# Altium footprint library PcbLib DISPLAY.PcbLib: 6 footprints
Each footprint in its own frame and in the unit in brackets; x right, y up, seen from the top. Pads: shape width x height; smd on the part's side, far side on the other; paste and mask are expansions set on the pad; w line width, h text height; cw(c..) or ccw(c..) is an arc to the next point about the centre after c.
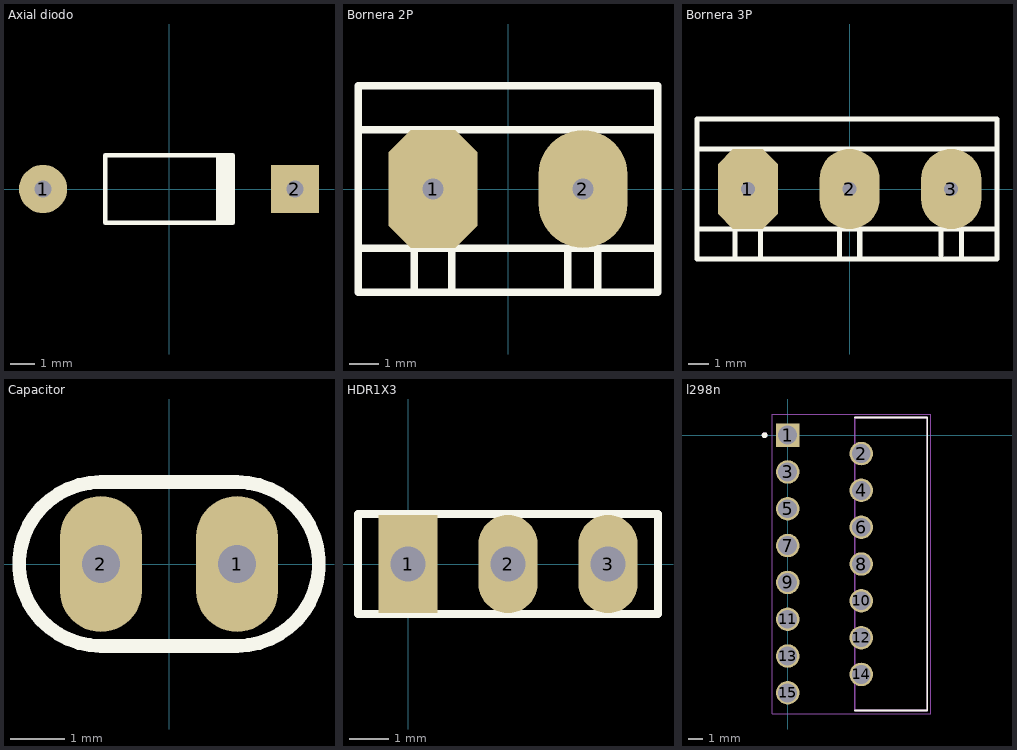
[diagram p0: the footprints below, top view; thin cyan lines are the x and y axes]

## Axial diodo [mm] "Diode, Axial; Body 5.2 x 2.7 mm (LxDia. max), Lead Dia. 0.86 mm (max)"
height 2.8
pads (2):
  round 2 hole 0.7: 1(-5.23,0)
  rect 2x2 hole 0.7: 2(5.23,0)
Top Overlay:
  rectangle: 1.95,-1.4 2.75,1.4
  lines w0.2: 2.65,-1.4 -2.65,-1.4 -2.65,1.4 2.65,1.4

## Bornera 2P [mm] "Connector; Header; 2 Position"
pads (2):
  oct 3x4 hole 0.7: 1(-2.54,0)
  oval 3x4 hole 0.7: 2(2.54,0)
Top Overlay:
  lines w0.254: -3.175,-3.5 -3.175,-2 ; -1.905,-3.5 -1.905,-2 ; 2.032,-3.5 2.032,-2 ; 3.048,-3.5 3.048,-2 ; 5.08,0 5.08,2 ; -5.08,-2 5.08,-2 ; -5.08,-2 -5.08,2 ; -5.08,-2 -5.08,-3.5 5.08,-3.5 5.08,-2 ; -5.08,2 0,2 5.08,2 ; -5.08,2 -5.08,3.5 5.08,3.5 5.08,2 ; 5.08,-2 5.08,2

## Bornera 3P [mm] "Connector; Header; 2 Position"
pads (3):
  oct 3x4 hole 0.7: 1(-5.08,0)
  oval 3x4 hole 0.7: 2(0,0) 3(5.08,0)
Top Overlay:
  lines w0.254: -5.715,-3.5 -5.715,-2 ; -4.445,-3.5 -4.445,-2 ; -0.508,-3.5 -0.508,-2 ; 0.508,-3.5 0.508,-2 ; 4.572,-3.302 4.572,-2 ; 5.588,-3.429 5.588,-2 ; 7.31,3.5 2.54,3.5 -7.62,3.5 -7.62,2 ; 7.334,-2 2.54,-2 -7.62,-2 ; 7.334,2 2.54,2 -2.54,2 -7.62,2 ; 7.366,3.5 7.366,-3.5 7.31,-3.5 2.54,-3.5 -7.62,-3.5 -7.62,-2 ; -7.62,-2 -7.62,2

## Capacitor [mm] "Polarized Capacitor (Radial); 2 Leads"
pads (2):
  oval 1.5x2.5 hole 0.7: 1(1.25,0) 2(-1.25,0)
Top Overlay:
  lines w0.254: -1.25,-1.504 cw(c-1.25,0) -1.25,1.504 1.25,1.504 cw(c1.25,0) 1.25,-1.504 -1.25,-1.504

## HDR1X3 [mm] "Connector; Header; 3 Position"
pads (3):
  rect 1.5x2.5 hole 0.9: 1(0,0)
  oval 1.5x2.5 hole 0.9: 2(2.54,0) 3(5.08,0)
Top Overlay:
  lines w0.2: -1.27,-1.27 6.35,-1.27 6.35,1.27 -1.27,1.27 -1.27,-1.27

## l298n [mm]
pads (15):
  rect 1.62x1.62 hole 1.3: 1(0,0)
  round 1.62 hole 1.3: 2(5.08,-1.27) 3(0,-2.54) 4(5.08,-3.81) 5(0,-5.08) 6(5.08,-6.35) 7(0,-7.62) 8(5.08,-8.89) 9(0,-10.16) 10(5.08,-11.43) 11(0,-12.7) 12(5.08,-13.97) 13(0,-15.24) 14(5.08,-16.51) 15(0,-17.78)
Top Overlay:
  circle w0.2: c-1.59,0 r0.1
  lines w0.127: 4.63,-18.99 9.63,-18.99 9.63,1.21 4.63,1.21
Mechanical 13:
  circle w0.2: c-1.59,0 r0.1
  lines w0.127: 4.63,-18.99 4.63,1.21 9.63,1.21 9.63,-18.99 4.63,-18.99
Mechanical 15:
  lines w0.05: -1.06,-19.24 -1.06,1.46 9.88,1.46 9.88,-19.24 -1.06,-19.24